# Altium footprint library GRT188R61A106ME13D.PcbLib: 1 footprints
Each footprint in its own frame and in the unit in brackets; x right, y up, seen from the top. Pads: shape width x height; smd on the part's side, far side on the other; paste and mask are expansions set on the pad; w line width, h text height; cw(c..) or ccw(c..) is an arc to the next point about the centre after c.
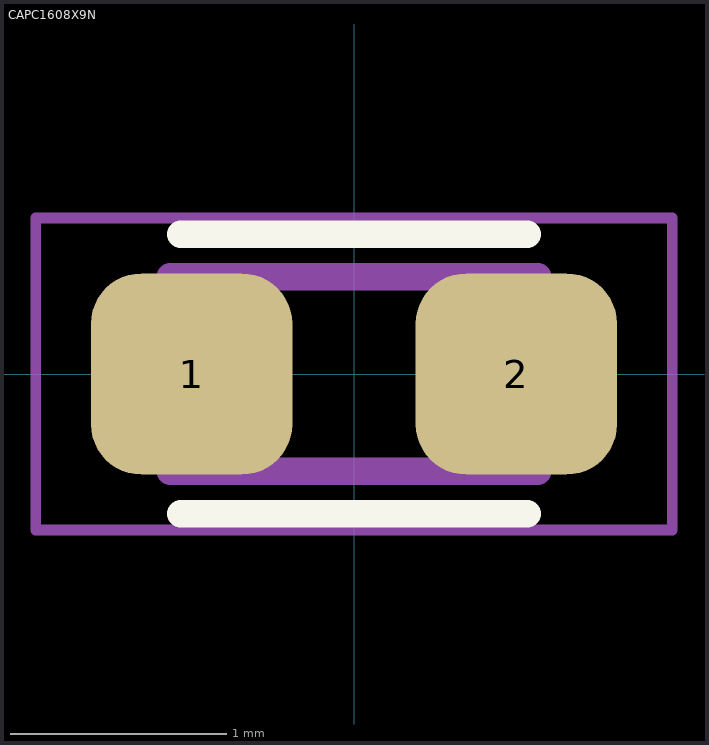
[diagram p0: the footprint, top view; thin cyan lines are the x and y axes]

## CAPC1608X9N [mm]
pads (2):
  rrect50% 0.93x0.93 smd: 1(-0.75,0) 2(0.75,0)
Top Overlay:
  lines w0.127: -0.8,-0.645 0.8,-0.645 ; -0.8,0.645 0.8,0.645
Mechanical 13:
  lines w0.127: -0.85,-0.45 0.85,-0.45 0.85,0.45 -0.85,0.45 -0.85,-0.45
Mechanical 15:
  lines w0.05: -1.47,-0.72 -1.47,0.72 1.47,0.72 1.47,-0.72 -1.47,-0.72
3D body "step_temp.STEP": height 0.4, standoff -0.4, extent -0.8,-0.4 0.8,0.4